# Altium schematic symbol library LQH5BPB100MT0L.SchLib: 1 symbol
Pins are listed as number, name and electrical type; pins without a type are passive.

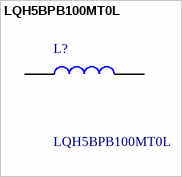
[diagram p0: symbol LQH5BPB100MT0L]

## LQH5BPB100MT0L
designator L?
LQH5BPB_T0 Series Inductor 10uH +/-20% 2020 (5050); Manufacturer_Name: Murata Electronics; Geometry.Height: 2.2mm; Mouser Part Number: 81-LQH5BPB100MT0L; Mouser Price/Stock: https://www.mouser.co.uk/ProductDetail/Murata-Electronics/LQH5BPB100MT0L?qs=hNud%2FORuBR2eSUAobsF5Ww%3D%3D; Manufacturer_Part_Number: LQH5BPB100MT0L; Datasheet Link: https://psearch.en.murata.com/inductor/product/LQH5BPB100MT0%23.html
footprint LQH5BPB100MT0L
pins: 1, 2